# Altium footprint library gpa_passives.PcbLib: 23 footprints (part 1 of 2)
Each footprint in its own frame and in the unit in brackets; x right, y up, seen from the top. Pads: shape width x height; smd on the part's side, far side on the other; paste and mask are expansions set on the pad; w line width, h text height; cw(c..) or ccw(c..) is an arc to the next point about the centre after c.
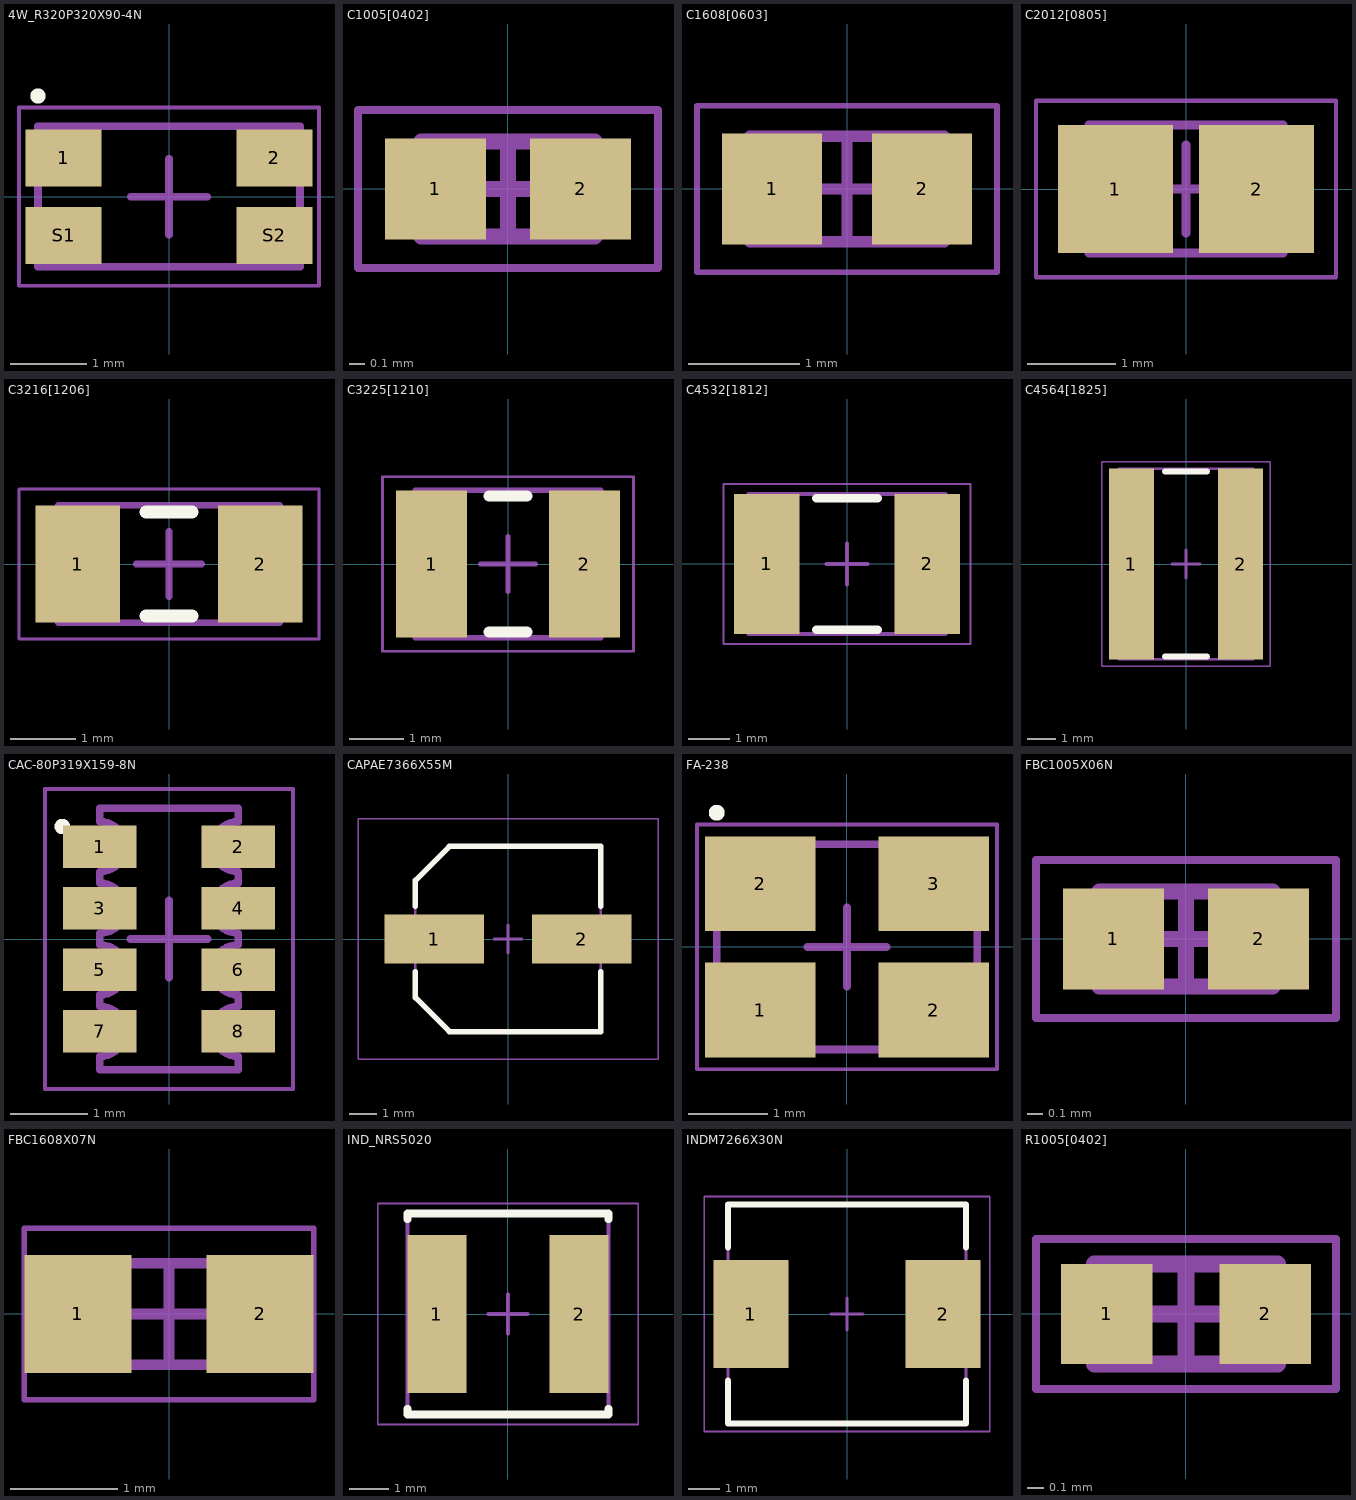
[diagram p0: the footprints below, top view; thin cyan lines are the x and y axes]

## 4W_R320P320X90-4N [mm] "WSK1206 4 Lead 1206, 4-Leads, Body 1.60x3.20mm, Pitch 3.20mm, IPC Medium Density"
height 0.9
pads (4):
  rect 1x0.75 smd: 1(-1.389,0.51) 2(1.389,0.51) S1(-1.389,-0.51) S2(1.389,-0.51)
Top Overlay:
  circle w0.1: c-1.725,1.325 r0.05
Mechanical 13:
  lines w0.1: -1.725,-0.925 -1.725,0.925 1.725,0.925 1.725,-0.925 -1.725,-0.925
Mechanical 15:
  lines w0.05: -1.975,-1.175 -1.975,1.175 1.975,1.175 1.975,-1.175 -1.975,-1.175
  lines w0.1: -0.5,0 0.5,0 ; 0,-0.5 0,0.5
3D body: height 0.9, standoff 0, extent -1.725,-0.925 1.725,0.925

## C1005[0402] [mm] "1005[0402]"
height 0.6
pads (2):
  rect 0.64x0.64 smd: 1(-0.46,0) 2(0.46,0)
Mechanical 13:
  lines w0.1: -0.55,-0.3 0.55,-0.3 0.55,0.3 -0.55,0.3 -0.55,-0.3
Mechanical 15:
  lines w0.05: -0.95,-0.5 0.95,-0.5 0.95,0.5 -0.95,0.5 -0.95,-0.5
  lines w0.1: -0.3,0 0.3,0 ; 0,-0.3 0,0.3
3D body: height 0.6, standoff 0, extent 0.35,-0.3 0.55,0.3
3D body: height 0.6, standoff 0, extent -0.55,-0.3 -0.35,0.3
3D body: height 0.6, standoff 0, extent -0.35,-0.3 0.35,0.3

## C1608[0603] [mm] "1608[0603]"
height 0.85
pads (2):
  rect 0.9x1 smd: 1(-0.675,0) 2(0.675,0)
Mechanical 13:
  lines w0.1: -0.875,-0.475 -0.875,0.475 0.875,0.475 0.875,-0.475 -0.875,-0.475
Mechanical 15:
  lines w0.05: -1.35,-0.75 -1.35,0.75 1.35,0.75 1.35,-0.75 -1.35,-0.75
  lines w0.1: -0.475,0 0.475,0 ; 0,-0.475 0,0.475
3D body: height 0.85, standoff 0, extent -0.525,-0.475 0.525,0.475
3D body: height 0.85, standoff 0, extent -0.875,-0.475 -0.525,0.475
3D body: height 0.85, standoff 0, extent 0.525,-0.475 0.875,0.475

## C2012[0805] [mm] "2012[0805]"
height 1.1
pads (2):
  rect 1.3x1.45 smd: 1(-0.8,0) 2(0.8,0)
Mechanical 13:
  lines w0.1: -1.1,-0.725 1.1,-0.725 1.1,0.725 -1.1,0.725 -1.1,-0.725
Mechanical 15:
  lines w0.05: -1.7,-1 1.7,-1 1.7,1 -1.7,1 -1.7,-1
  lines w0.1: -0.5,0 0.5,0 ; 0,-0.5 0,0.5
3D body: height 1.1, standoff 0, extent 0.6,-0.725 1.1,0.725
3D body: height 1.1, standoff 0, extent -1.1,-0.725 -0.6,0.725
3D body: height 1.1, standoff 0, extent -0.6,-0.725 0.6,0.725

## C3216[1206] [mm] "3216[1206]"
height 1.35
pads (2):
  rect 1.3x1.8 smd: 1(-1.4,0) 2(1.4,0)
Top Overlay:
  lines w0.2: -0.35,-0.8 0.35,-0.8 ; -0.35,0.8 0.35,0.8
Mechanical 13:
  lines w0.1: -1.7,-0.9 -1.7,0.9 1.7,0.9 1.7,-0.9 -1.7,-0.9
Mechanical 15:
  lines w0.05: -2.3,-1.15 -2.3,1.15 2.3,1.15 2.3,-1.15 -2.3,-1.15
  lines w0.1: -0.5,0 0.5,0 ; 0,-0.5 0,0.5
3D body: height 1.35, standoff 0, extent -1.2,-0.9 1.2,0.9
3D body: height 1.35, standoff 0, extent -1.7,-0.9 -1.2,0.9
3D body: height 1.35, standoff 0, extent 1.2,-0.9 1.7,0.9

## C3225[1210] [mm] "3225[1210]"
height 1.35
pads (2):
  rect 1.3x2.7 smd: 1(-1.4,0) 2(1.4,0)
Top Overlay:
  lines w0.2: -0.35,-1.25 0.35,-1.25 ; -0.35,1.25 0.35,1.25
Mechanical 13:
  lines w0.1: -1.7,-1.35 1.7,-1.35 1.7,1.35 -1.7,1.35 -1.7,-1.35
Mechanical 15:
  lines w0.05: -2.3,-1.6 2.3,-1.6 2.3,1.6 -2.3,1.6 -2.3,-1.6
  lines w0.1: -0.5,0 0.5,0 ; 0,-0.5 0,0.5
3D body: height 1.35, standoff 0, extent 1.2,-1.35 1.7,1.35
3D body: height 1.35, standoff 0, extent -1.7,-1.35 -1.2,1.35
3D body: height 1.35, standoff 0, extent -1.2,-1.35 1.2,1.35

## C4532[1812] [mm] "4532[1812]"
height 1.35
pads (2):
  rect 1.6x3.4 smd: 1(-1.95,0) 2(1.95,0)
Top Overlay:
  lines w0.2: -0.75,-1.6 0.75,-1.6 ; -0.75,1.6 0.75,1.6
Mechanical 13:
  lines w0.1: -2.4,-1.7 2.4,-1.7 2.4,1.7 -2.4,1.7 -2.4,-1.7
Mechanical 15:
  lines w0.05: -3,-1.95 3,-1.95 3,1.95 -3,1.95 -3,-1.95
  lines w0.1: -0.5,0 0.5,0 ; 0,-0.5 0,0.5
3D body: height 1.35, standoff 0, extent 1.8,-1.7 2.4,1.7
3D body: height 1.35, standoff 0, extent -2.4,-1.7 -1.8,1.7
3D body: height 1.35, standoff 0, extent -1.8,-1.7 1.8,1.7

## C4564[1825] [mm] "4564[1825]"
height 1.1
pads (2):
  rect 1.6x6.8 smd: 1(-1.95,0) 2(1.95,0)
Top Overlay:
  lines w0.2: -0.75,-3.3 0.75,-3.3 ; -0.75,3.3 0.75,3.3
Mechanical 13:
  lines w0.1: -2.4,-3.4 2.4,-3.4 2.4,3.4 -2.4,3.4 -2.4,-3.4
Mechanical 15:
  lines w0.05: -3,-3.65 3,-3.65 3,3.65 -3,3.65 -3,-3.65
  lines w0.1: -0.5,0 0.5,0 ; 0,-0.5 0,0.5
3D body: height 1.1, standoff 0, extent 1.8,-3.4 2.4,3.4
3D body: height 1.1, standoff 0, extent -2.4,-3.4 -1.8,3.4
3D body: height 1.1, standoff 0, extent -1.8,-3.4 1.8,3.4

## CAC-80P319X159-8N [mm] "742C083 - Chip Array, Concave, 8-Leads, Pitch 0.80mm,  Body 3.20x1.60mm,  IPC Medium Density"
height 0.7
pads (8):
  rect 0.95x0.55 smd: 1(-0.9,1.2) 2(0.9,1.2) 3(-0.9,0.4) 4(0.9,0.4) 5(-0.9,-0.4) 6(0.9,-0.4) 7(-0.9,-1.2) 8(0.9,-1.2)
Top Overlay:
  circle w0.1: c-1.387,1.463 r0.05
Mechanical 13:
  lines w0.1: -0.9,-1.7 0.9,-1.7 0.9,-1.525 cw(c0.9,-1.2) 0.9,-0.875 0.9,-0.725 cw(c0.9,-0.4) 0.9,-0.075 0.9,0.075 cw(c0.9,0.4) 0.9,0.725 0.9,0.875 cw(c0.9,1.2) 0.9,1.525 0.9,1.7 -0.9,1.7 -0.9,1.525 cw(c-0.9,1.2) -0.9,0.875 -0.9,0.725 cw(c-0.9,0.4) -0.9,0.075 -0.9,-0.075 cw(c-0.9,-0.4) -0.9,-0.725 -0.9,-0.875 cw(c-0.9,-1.2) -0.9,-1.525 -0.9,-1.7
Mechanical 15:
  lines w0.05: -1.61,-1.95 1.61,-1.95 1.61,1.95 -1.61,1.95 -1.61,-1.95
  lines w0.1: -0.5,0 0.5,0 ; 0,-0.5 0,0.5
3D body: height 0.7, standoff 0, extent -0.9,-1.7 0.9,1.7

## CAPAE7366X55M [mm] "Aluminum Electrolytic Capacitor, Body 6.60x6.60x5.50mm, IPC Low Density"
height 5.5
pads (2):
  rect 3.65x1.8 smd: 1(-2.7,0) 2(2.7,0)
Top Overlay:
  lines w0.2: -3.4,-1.2 -3.4,-2.15 -2.15,-3.4 3.4,-3.4 3.4,-1.2 ; -3.4,1.2 -3.4,2.15 -2.15,3.4 3.4,3.4 3.4,1.2
Mechanical 13:
  lines w0.1: -3.4,-2.15 -2.15,-3.4 3.4,-3.4 3.4,3.4 -2.15,3.4 -3.4,2.15 -3.4,-2.15
Mechanical 15:
  lines w0.05: -5.5,-4.4 -5.5,4.4 5.5,4.4 5.5,-4.4 -5.5,-4.4
  lines w0.1: -0.5,0 0.5,0 ; 0,-0.5 0,0.5
3D body "CAPAE7366X55M.step": height 5.5, standoff -0.8, extent -3.65,-3.4 3.65,3.4

## FA-238 [mm] "DFN, 4-Leads, Body 2.50x3.20mm, Pitch 2.10mm, IPC Medium Density"
height 0.7
pads (4):
  rect 1.4x1.2 smd: 1(-1.1,-0.8) 2(-1.1,0.8) 2(1.1,-0.8) 3(1.1,0.8)
Top Overlay:
  circle w0.1: c-1.65,1.7 r0.05
Mechanical 13:
  lines w0.1: -1.65,-1.3 -1.65,1.3 1.65,1.3 1.65,-1.3 -1.65,-1.3
Mechanical 15:
  lines w0.05: -1.9,-1.55 -1.9,1.55 1.9,1.55 1.9,-1.55 -1.9,-1.55
  lines w0.1: -0.5,0 0.5,0 ; 0,-0.5 0,0.5
3D body: height 0.7, standoff 0, extent -1.65,-1.3 1.65,1.3

## FBC1005X06N [mm] "Chip Ferrite Bead, 2-Leads, Body 1.00x0.50mm, IPC Medium Density"
height 0.6
pads (2):
  rect 0.64x0.64 smd: 1(-0.46,0) 2(0.46,0)
Mechanical 13:
  lines w0.1: -0.55,-0.3 0.55,-0.3 0.55,0.3 -0.55,0.3 -0.55,-0.3
Mechanical 15:
  lines w0.05: -0.95,-0.5 0.95,-0.5 0.95,0.5 -0.95,0.5 -0.95,-0.5
  lines w0.1: -0.3,0 0.3,0 ; 0,-0.3 0,0.3
3D body: height 0.6, standoff 0, extent 0.35,-0.3 0.55,0.3
3D body: height 0.6, standoff 0, extent -0.55,-0.3 -0.35,0.3
3D body: height 0.6, standoff 0, extent -0.35,-0.3 0.35,0.3

## FBC1608X07N [mm] "Chip Ferrite bead 2-Leads, Body 1.60x0.80mm, IPC Medium Density"
height 0.71
pads (2):
  rect 1x1.1 smd: 1(-0.85,0) 2(0.85,0)
Mechanical 13:
  lines w0.1: -0.875,-0.475 0.875,-0.475 0.875,0.475 -0.875,0.475 -0.875,-0.475
Mechanical 15:
  lines w0.05: -1.35,-0.8 1.35,-0.8 1.35,0.8 -1.35,0.8 -1.35,-0.8
  lines w0.1: -0.475,0 0.475,0 ; 0,-0.475 0,0.475
3D body: height 0.71, standoff 0, extent 0.475,-0.475 0.875,0.475
3D body: height 0.71, standoff 0, extent -0.875,-0.475 -0.475,0.475
3D body: height 0.71, standoff 0, extent -0.475,-0.475 0.475,0.475

## IND_NRS5020 [mm] "TAIYO YUDEN Molded Inductor, 2-Leads, Body 4.90x4.90mm, IPC Medium Density"
height 2
pads (2):
  rect 1.5x4 smd: 1(-1.8,0) 2(1.8,0)
Top Overlay:
  lines w0.2: -2.55,-2.4 -2.55,-2.55 2.55,-2.55 2.55,-2.4 ; -2.55,2.4 -2.55,2.55 2.55,2.55 2.55,2.4
Mechanical 13:
  lines w0.1: -2.55,-2.55 2.55,-2.55 2.55,2.55 -2.55,2.55 -2.55,-2.55
Mechanical 15:
  lines w0.05: -3.3,-2.8 3.3,-2.8 3.3,2.8 -3.3,2.8 -3.3,-2.8
  lines w0.1: -0.5,0 0.5,0 ; 0,-0.5 0,0.5
3D body: height 2, standoff 0, extent -2.55,-2.55 2.55,2.55

## INDM7266X30N [mm] "Molded Inductor, 2-Leads, Body 7.20x6.65mm, IPC Medium Density"
height 3
pads (2):
  rect 2.35x3.4 smd: 1(-3.025,0) 2(3.025,0)
Top Overlay:
  lines w0.2: -3.75,-2.1 -3.75,-3.45 3.75,-3.45 3.75,-2.1 ; -3.75,2.1 -3.75,3.45 3.75,3.45 3.75,2.1
Mechanical 13:
  lines w0.1: -3.75,-3.425 3.75,-3.425 3.75,3.425 -3.75,3.425 -3.75,-3.425
Mechanical 15:
  lines w0.05: -4.5,-3.7 4.5,-3.7 4.5,3.7 -4.5,3.7 -4.5,-3.7
  lines w0.1: -0.5,0 0.5,0 ; 0,-0.5 0,0.5
3D body "ASPI-0630LR.STEP": height 3, standoff 0, extent -3.6,-3.325 3.6,3.325

## R1005[0402] [mm] "1005[0402]"
height 0.4
pads (2):
  rect 0.55x0.6 smd: 1(-0.475,0) 2(0.475,0)
Mechanical 13:
  lines w0.1: -0.55,-0.3 -0.55,0.3 0.55,0.3 0.55,-0.3 -0.55,-0.3
Mechanical 15:
  lines w0.05: -0.9,-0.45 -0.9,0.45 0.9,0.45 0.9,-0.45 -0.9,-0.45
  lines w0.1: -0.3,0 0.3,0 ; 0,-0.3 0,0.3
3D body: height 0.4, standoff 0, extent -0.35,-0.3 0.35,0.3
3D body: height 0.4, standoff 0, extent -0.55,-0.3 -0.35,0.3
3D body: height 0.4, standoff 0, extent 0.35,-0.3 0.55,0.3